# Altium footprint library K71-6.PcbLib: 1 footprints
Each footprint in its own frame and in the unit in brackets; x right, y up, seen from the top. Pads: shape width x height; smd on the part's side, far side on the other; paste and mask are expansions set on the pad; w line width, h text height; cw(c..) or ccw(c..) is an arc to the next point about the centre after c.
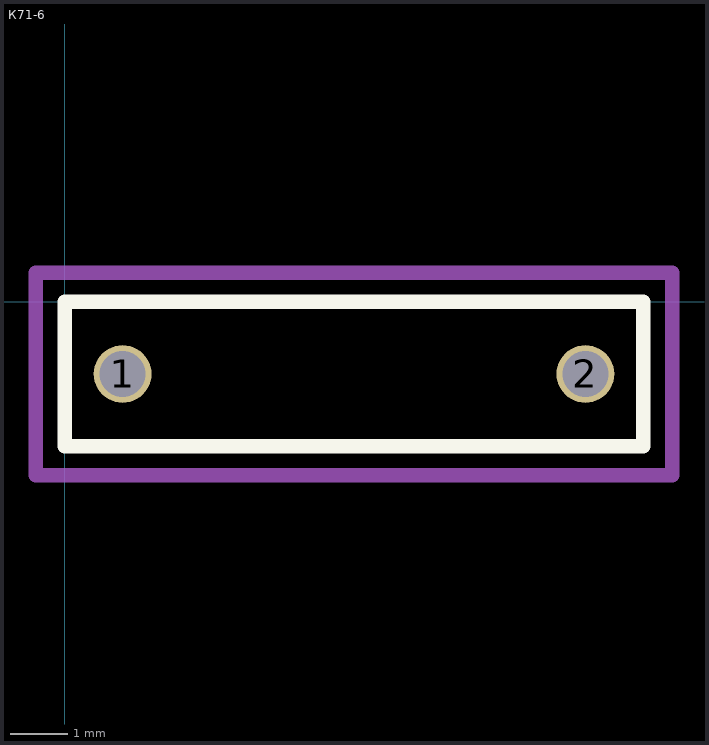
[diagram p0: the footprint, top view; thin cyan lines are the x and y axes]

## К71-6 [mm]
pads (2):
  round 1 hole 0.8: 1(1,-1.25) 2(9,-1.25)
Top Overlay:
  lines w0.254: 0,-2.5 10,-2.5 10,0 0,0 0,-2.5
Mechanical 1:
  lines w0.254: -0.5,-3 10.5,-3 10.5,0.5 -0.5,0.5 -0.5,-3